# Altium footprint library STM32F103Mini.PcbLib: 1 footprints
Each footprint in its own frame and in the unit in brackets; x right, y up, seen from the top. Pads: shape width x height; smd on the part's side, far side on the other; paste and mask are expansions set on the pad; w line width, h text height; cw(c..) or ccw(c..) is an arc to the next point about the centre after c.
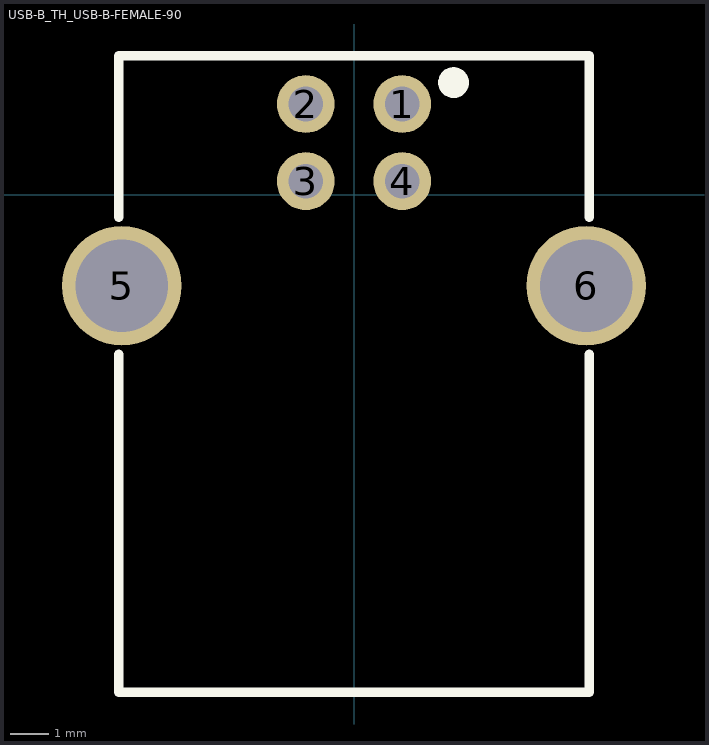
[diagram p0: the footprint, top view; thin cyan lines are the x and y axes]

## USB-B_TH_USB-B-FEMALE-90 [mm]
pads (6):
  round 1.5 hole 0.9 copper offset 0,0 paste+0.051: 1(1.25,2.355) 2(-1.25,2.355) 3(-1.25,0.355) 4(1.25,0.355)
  round 3.1 hole 2.4 copper offset 0,0 paste+0.051: 5(-6.02,-2.355) 6(6.02,-2.355)
Top Overlay:
  circle w0.4: c2.58,2.91 r0.2
  lines w0.254: -6.1,-4.134 -6.1,-12.895 6.1,-12.895 6.1,-4.134 ; -6.1,-0.576 -6.1,3.605 6.1,3.605 6.1,-0.576